# Altium schematic symbol library Schlib2.SchLib: 22 symbols
Pins are listed as number, name and electrical type; pins without a type are passive.

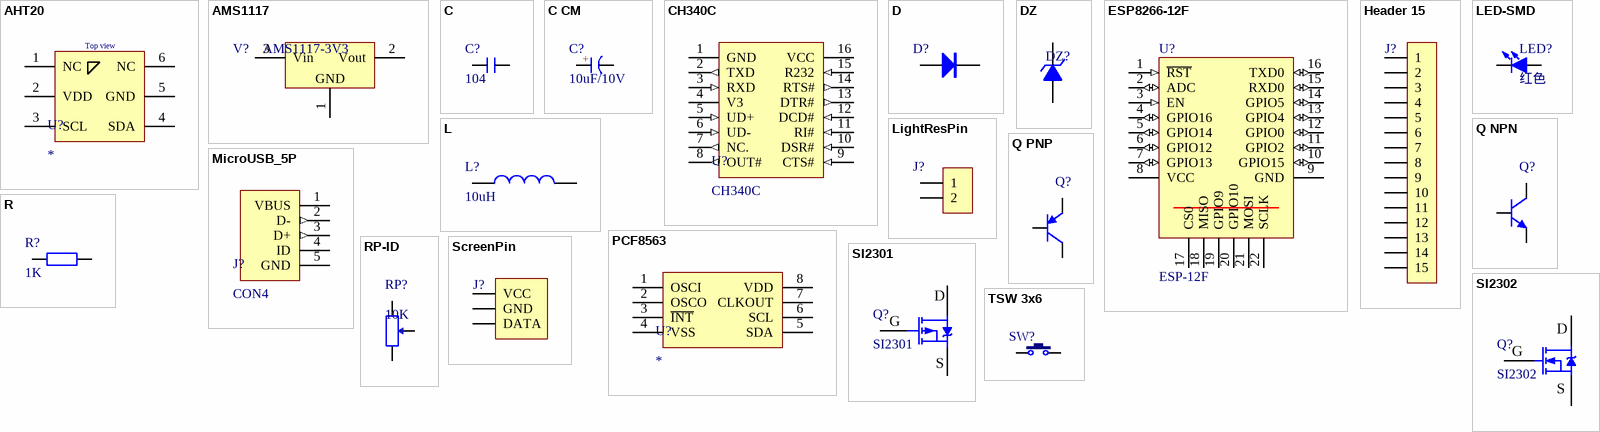
[diagram p0: symbols AHT20 to TSW 3x6]

## AHT20
designator U?
pins: 1 NC, 2 VDD, 3 SCL, 4 SDA, 5 GND, 6 NC
text: Top view

## AMS1117
designator V?, comment AMS1117-3V3
三端稳压芯片; BOM名称: 稳压芯片; 版权归属: 源创客; 学习资源: www.ooocke.com
footprint SOT223_L (6.4x7x1.6mm(长宽高))
footprint SOT223_M (6.4x7x1.6mm(长宽高))
footprint SOT223_N (6.4x7x1.6mm(长宽高))
footprint SOT89_L (4.6x4.3x1.6mm(长宽高))
footprint SOT89_N (4.6x4.3x1.6mm(长宽高))
footprint SOT89_M (4.6x4.3x1.6mm(长宽高))
pins: 1 GND, 2 Vout, 3 Vin

## C
designator C?, comment 104
无极性贴片电容; 版权归属: 源创客; BOM名称: 无极性贴片电容; 学习资源: www.ooocke.com
footprint C 0402_M (无极性贴片电容)
footprint C 0603_M (无极性贴片电容)
pins: 1, 2

## C CM
designator C?, comment 10uF/10V
极性电解电容; BOM名称: 贴片电解电容; 版权归属: 源创客; 学习资源: www.ooocke.com
footprint C 0402_M (无极性贴片电容)
footprint C 0603_M (无极性贴片电容)
pins: 1 A, 2 K
text: +

## CH340C
designator U?
CH340 是一个 USB 总线的转接芯片，实现 USB 转串口或者 USB 转打印口。
footprint SOP-16_150mil
pins: 1 GND (power), 2 TXD (out), 3 RXD (in), 4 V3 (power), 5 UD+ (in), 6 UD- (in), 7 NC. (out), 8 OUT# (out), 9 CTS# (in), 10 DSR# (in), 11 RI# (in), 12 DCD# (in), 13 DTR# (out), 14 RTS# (out), 15 R232 (in), 16 VCC (power)

## D
designator D?
整流二极管; 版权归属: 源创客; BOM名称: 整流二极管; 学习资源: www.ooocke.com
footprint D SMA(DO-214AC)
pins: 1 A, 2 K

## DZ
designator DZ?
稳压二极管; BOM名称: 3V/0.5W稳压管; 版权归属: 源创客; 学习资源: www.ooocke.com
footprint D SMA(DO-214AC)
pins: 1 A, 2 K

## ESP8266-12F
designator U?, comment ESP-12F
ESP-12F 是由安信可科技开发的 Wi-Fi 模块， 该模块核心处理器 ESP8266 在较小尺 / 寸封装中集成了业界领先的 Tensilica L106 超低功耗 32 位微型 MCU， 带有 16 位精 / 简模式， 主频支持 80 MHz 和 160 MHz， 支持 RTOS， 集成 Wi-Fi MAC/ BB/RF/PA/LNA。 / ESP-12F Wi-Fi 模块支持标准的 IEEE802.11 b/g/n 协议， 完整的 TCP/IP 协议栈。 / 用户可以使用该模块为现有的设备添加联网功能， 也可以构建独立的网络控制器。 / ESP8266 是高性能无线 SoC， 以最低成本提供最大实用性， 为 Wi-Fi 功能嵌入其他 / 系统提供无限可能。
footprint ESP-12F
pins: 1 ~{RST} (in), 2 ADC (io), 3 EN (in), 4 GPIO16 (io), 5 GPIO14 (io), 6 GPIO12 (io), 7 GPIO13 (io), 8 VCC (power), 9 GND (power), 10 GPIO15 (io), 11 GPIO2 (io), 12 GPIO0 (io), 13 GPIO4 (io), 14 GPIO5 (io), 15 RXD0 (io), 16 TXD0 (io), 17 CS0, 18 MISO, 19 GPIO9, 20 GPIO10, 21 MOSI, 22 SCLK

## Header 15
designator J?, comment HDR-1X15  (value not drawn)
15P接插件; 版权归属: 源创客; BOM名称: 15P接插件; 学习资源: www.ooocke.com
footprint PH2.0-WS-15P (长：34mm，宽：7.6mm，高：5.5mm)
footprint PH2.0-LS-15P (长：34mm，宽：5.5mm，高：6.1mm)
footprint PH2.0-LI-15P (长：27.9mm，宽：4.7mm，高：6mm)
footprint PH2.0-LI-15P (长：27.9mm，宽：4.7mm，高：6mm)
pins: 1, 2, 3, 4, 5, 6, 7, 8, 9, 10, 11, 12, 13, 14, 15

## L
designator L?, comment 10uH
小功率贴片电感; 版权归属: 源创客; BOM名称: 小功率贴片电感; 学习资源: www.ooocke.com
footprint L 0402 (小功率贴片电感)
footprint L 0603 (小功率贴片电感)
footprint L 0805 (小功率贴片电感)
footprint L 1206 (小功率贴片电感)
footprint L 1210 (小功率贴片电感)
footprint L 1806 (小功率贴片电感)
footprint L 1812 (小功率贴片电感)
pins: 1, 2

## LED-SMD
designator LED?, comment 红色
贴片LED; 版权归属: 源创客; BOM名称: 贴片LED; 学习资源: www.ooocke.com
footprint D 0402
pins: 1 A, 2 K

## LightResPin
designator J?, comment HDR-1X2  (value not drawn)
2P接插件; 版权归属: 源创客; BOM名称: 2P接插件; 学习资源: www.ooocke.com
footprint PH2.0-WI-2P (接插件/1A)
footprint PH2.0-LI-2P (接插件/1A)
footprint PH2.0-WS-2P (长：8mm，宽：7.6mm，高：5.5mm)
footprint PH2.0-LS-2P (长：8mm，宽：5.5mm，高：6.1mm)
pins: 1, 2

## MicroUSB_5P
designator J?, comment CON4
footprint MicroUsb_C404969
pins: 1 VBUS (power), 2 D- (out), 3 D+ (out), 4 ID, 5 GND (power)

## PCF8563
designator U?
pins: 1 OSCI, 2 OSCO, 3 ~{INT}, 4 VSS, 5 SDA, 6 SCL, 7 CLKOUT, 8 VDD

## Q NPN
designator Q?
互补功率-NPN型; 版权归属: 源创客; 属性: 80V 8A 50W; BOM名称: 互补功率-NPN型; 学习资源: www.ooocke.com
footprint Q SOT23-3L (3x1.3x1mm(长宽高))
pins: 1 B, 2 E, 3 C

## Q PNP
designator Q?
互补功率-PNP型; 版权归属: 源创客; 属性: 80V 8A 50W; BOM名称: 互补功率-PNP型; 学习资源: www.ooocke.com
pins: 1 B, 2 C, 3 E

## R
designator R?, comment 1K
贴片电阻
footprint R 0402R
footprint R 0603C
pins: 1, 2

## RP-ID
designator RP?, comment 10K
插件单联电位器; BOM名称: 插件电位器; 版权归属: 源创客; 学习资源: www.ooocke.com
pins: 1, 2, 3

## ScreenPin
designator J?, comment HDR-1X3  (value not drawn)
3P接插件; 版权归属: 源创客; BOM名称: 3P接插件; 学习资源: www.ooocke.com
footprint PH2.0-WI-3P (接插件/1A)
footprint PH2.0-LI-3P (接插件/1A)
footprint PH2.0-WS-3P (长：10mm，宽：7.6mm，高：5.5mm)
footprint PH2.0-LS-3P (长：10mm，宽：5.5mm，高：6.1mm)
pins: 1 VCC, 2 GND, 3 DATA

## SI2301
designator Q?
P沟道场效应管; 版权归属: 源创客; BOM名称: P沟道场效应管; 学习资源: www.ooocke.com
footprint SOT23-3N (3x1.3x1mm(长宽高))
footprint SOT23-3L (3x1.3x1mm(长宽高))
footprint SOT23-3M (3x1.3x1mm(长宽高))
pins: 1 G, 2 S, 3 D

## SI2302
designator Q?
N沟道场效应管; 版权归属: 源创客; BOM名称: N沟道场效应管; 学习资源: www.ooocke.com
footprint SOT23-3N (3x1.3x1mm(长宽高))
footprint SOT23-3L (3x1.3x1mm(长宽高))
footprint SOT23-3M (3x1.3x1mm(长宽高))
pins: 1 G, 2 S, 3 D

## TSW 3x6
designator SW?, comment 3x6x5  (value not drawn)
3x6轻触开关; 版权归属: 源创客; BOM名称: 3x6轻触开关; 学习资源: www.ooocke.com
footprint TSW SMD-3*6*2.5 (3*6*2.5mm)
footprint TSW DIP-3*6*5_V (侧按轻触开关 3*6*5mm)
footprint TSW DIP-3*6*4.3 (3*6*4.3mm)
footprint TSW DIP-3*6*4.3_V (侧按轻触开关 3*6*4.3mm)
footprint TSW DIP-3*6*5 (3*6*5mm)
footprint TSW SMD-3*6*4.3 (3*6*4.3mm)
footprint TSW SMD-3*6*5 (3*6*5mm)
footprint TSW 3*6*4.3-S-W (侧立贴片3*6*4.3)
pins: 1, 2